# Altium footprint library 2894.PcbLib: 1 footprints
Each footprint in its own frame and in the unit in brackets; x right, y up, seen from the top. Pads: shape width x height; smd on the part's side, far side on the other; paste and mask are expansions set on the pad; w line width, h text height; cw(c..) or ccw(c..) is an arc to the next point about the centre after c.
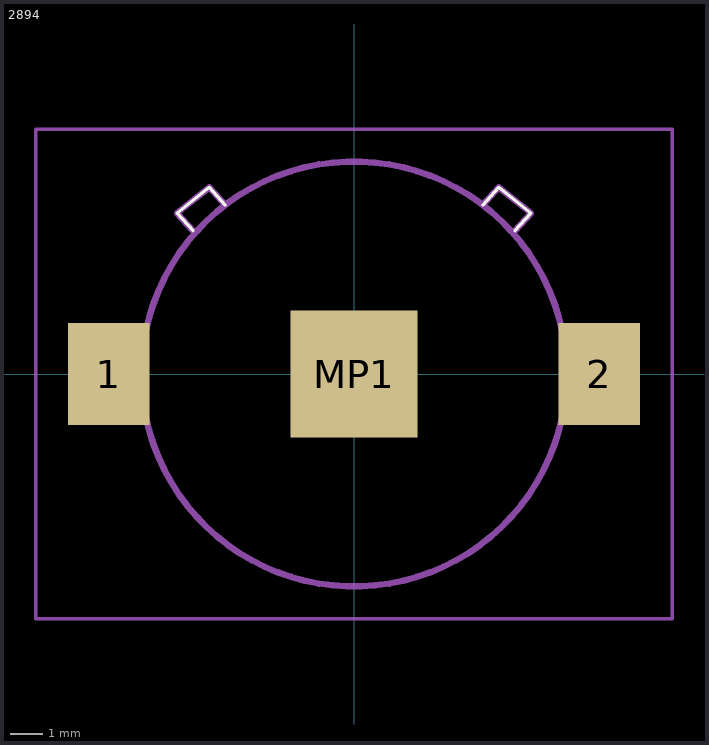
[diagram p0: the footprint, top view; thin cyan lines are the x and y axes]

## 2894 [mm]
pads (3):
  rect 2.54x3.17 smd: 1(-7.62,0) 2(7.62,0)
  rect 3.96x3.96 smd: MP1(0,0)
Top Overlay:
  lines w0.1: -5,4.45 -5.5,5 -4.5,5.8 -4,5.25 ; 4,5.25 4.5,5.8 5.5,5 5,4.45
Mechanical 15:
  lines w0.2: -5,4.45 -5.5,5 -4.5,5.8 -4,5.25 ; 4,5.25 4.5,5.8 5.5,5 5,4.45 ; -6.605,0 -6.605,0 ; -6.605,0 ccw(c0,0) 6.605,0 ; -6.605,0 cw(c0,0) 6.605,0 ; 6.605,0 6.605,0
Mechanical 20:
  lines w0.1: -9.89,-7.605 9.89,-7.605 9.89,7.605 -9.89,7.605 -9.89,-7.605